# EAGLE library part 4CH-MIXER-3364 (library XM8)
Xonik 4 channel voltage controlled linear mixer with external input
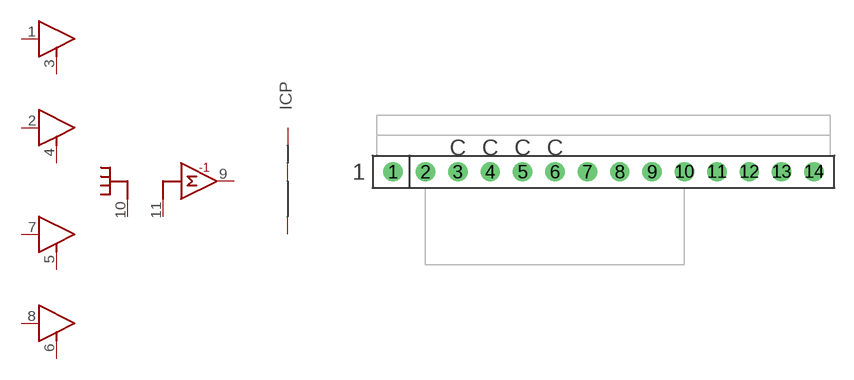
[diagram p15: symbol with the pads of XM8-4CH-MIXER-3364-V; footprint XM8-4CH-MIXER-3364-V]

Designator prefix IC; gates G$1=XM8-MIXER-INPUT G$2=XM8-MIXER-INPUT G$3=XM8-MIXER-INPUT G$4=XM8-MIXER-INPUT P=XM8-PWR G$5=XM8-MIXER-OUTPUT-2

## 4CH-MIXER-3364  [XM8-4CH-MIXER-3364-V]
1  G$1:I
2  G$2:I
3  G$1:C
4  G$2:C
5  G$3:C
6  G$4:C
7  G$3:I
8  G$4:I
9  G$5:O
10  G$5:B
11  G$5:M
12  P:-V  pwr
13  P:+V  pwr
14  P:AGND  pwr

## Footprint XM8-4CH-MIXER-3364-V (pad centres in mm)
Xonik 4 channel linear mixer (AS3364), vertical mount
drill 1.016: 1 -16.51,0; 2 -13.97,0; 3 -11.43,0; 4 -8.89,0; 5 -6.35,0; 6 -3.81,0; 7 -1.27,0; 8 1.27,0; 9 3.81,0; 10 6.35,0; 11 8.89,0; 12 11.43,0; 13 13.97,0; 14 16.51,0